# EAGLE library part ZIF32 (library My Atmel)
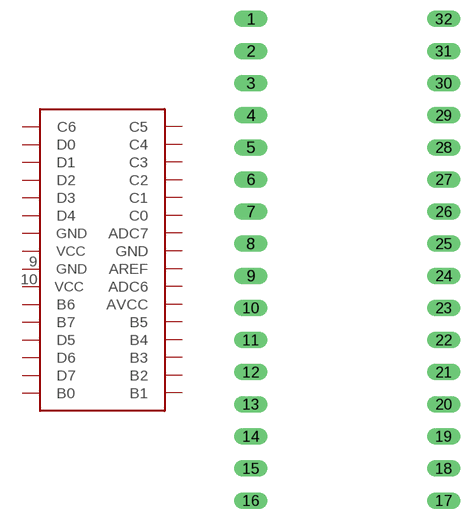
[diagram p2: symbol with the pads of DIL32; footprint DIL32]

Designator prefix -

## ZIF32  [DIL32]
1  C6
2  D0
3  D1
4  D2
5  D3
6  D4
7  GND2
8  VCC1
9  GND1
10  VCC
11  B7
12  B6
13  D5
14  D6
15  D7
16  B0
17  B1
18  B2
19  B3
20  B4
21  B5
22  AVCC
23  ADC6
24  AREF
25  GND
26  ADC7
27  C0
28  C1
29  C2
30  C3
31  C4
32  C5

## Footprint DIL32 (pad centres in mm)
Dual In Line Package
drill 0.813 long: 1 -7.62,19.05; 2 -7.62,16.51; 3 -7.62,13.97; 4 -7.62,11.43; 5 -7.62,8.89; 6 -7.62,6.35; 7 -7.62,3.81; 8 -7.62,1.27; 9 -7.62,-1.27; 10 -7.62,-3.81; 11 -7.62,-6.35; 12 -7.62,-8.89; 13 -7.62,-11.43; 14 -7.62,-13.97; 15 -7.62,-16.51; 16 -7.62,-19.05; 17 7.62,-19.05; 18 7.62,-16.51; 19 7.62,-13.97; 20 7.62,-11.43; 21 7.62,-8.89; 22 7.62,-6.35; 23 7.62,-3.81; 24 7.62,-1.27; 25 7.62,1.27; 26 7.62,3.81; 27 7.62,6.35; 28 7.62,8.89; 29 7.62,11.43; 30 7.62,13.97; 31 7.62,16.51; 32 7.62,19.05